# Altium footprint library R2010(5025).PcbLib: 1 footprints
Each footprint in its own frame and in the unit in brackets; x right, y up, seen from the top. Pads: shape width x height; smd on the part's side, far side on the other; paste and mask are expansions set on the pad; w line width, h text height; cw(c..) or ccw(c..) is an arc to the next point about the centre after c.
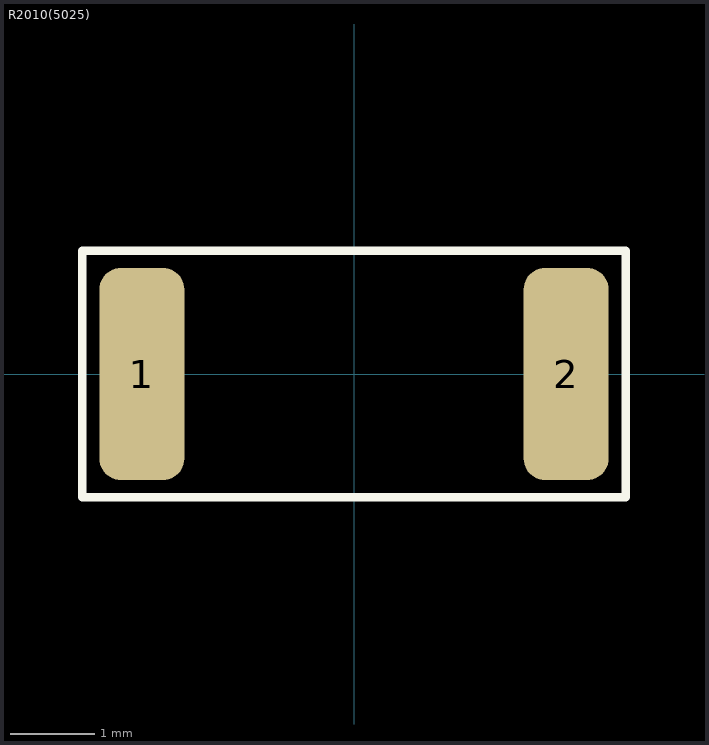
[diagram p0: the footprint, top view; thin cyan lines are the x and y axes]

## R2010(5025) [mm]
height 0.55
pads (2):
  rrect50% 1x2.5 smd: 1(-2.5,0) 2(2.5,0)
Top Overlay:
  lines w0.1: -3.2,-1.45 -3.2,1.45 3.2,1.45 3.2,-1.45 -3.2,-1.45
3D body "SMD R-2010.STEP": height 0.62, standoff 0, extent -2.502,-1.244 2.502,1.246